# EAGLE library part FT8U245AM (library ftdi)
USB FIFO 1st Generation USB FIFO (USB <-> Parallel)
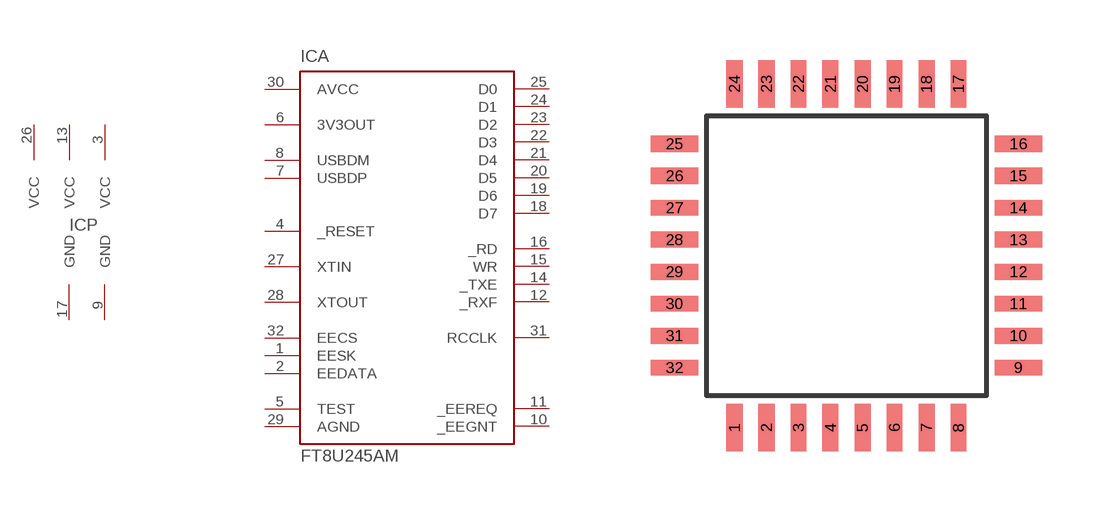
[diagram p3: symbol with the pads of LQFP32; footprint LQFP32]

Designator prefix IC; gates A=FT8U245AM P=3VCC2GND

## FT8U245AM  [LQFP32]
1  A:EESK
2  A:EEDATA
3  P:VCC  pwr
4  A:_RESET  in
5  A:TEST  in
6  A:3V3OUT  out
7  A:USBDP
8  A:USBDM
9  P:GND  pwr
10  A:_EEGNT  out
11  A:_EEREQ  in
12  A:_RXF  out
13  P:VCC  pwr
14  A:_TXE  out
15  A:WR  in
16  A:_RD  in
17  P:GND  pwr
18  A:D7
19  A:D6
20  A:D5
21  A:D4
22  A:D3
23  A:D2
24  A:D1
25  A:D0
26  P:VCC  pwr
27  A:XTIN  in
28  A:XTOUT  out
29  A:AGND  pwr
30  A:AVCC  pwr
31  A:RCCLK
32  A:EECS

## Footprint LQFP32 (pad centres in mm)
LQFP-32 package 7x7 mm case, 0.8 mm lead pitch
smd 0.4 x 1.2: 1 -2.8,-4.3; 2 -2,-4.3; 3 -1.2,-4.3; 4 -0.4,-4.3; 5 0.4,-4.3; 6 1.2,-4.3; 7 2,-4.3; 8 2.8,-4.3; 17 2.8,4.3; 18 2,4.3; 19 1.2,4.3; 20 0.4,4.3; 21 -0.4,4.3; 22 -1.2,4.3; 23 -2,4.3; 24 -2.8,4.3
smd 1.2 x 0.4: 9 4.3,-2.8; 10 4.3,-2; 11 4.3,-1.2; 12 4.3,-0.4; 13 4.3,0.4; 14 4.3,1.2; 15 4.3,2; 16 4.3,2.8; 25 -4.3,2.8; 26 -4.3,2; 27 -4.3,1.2; 28 -4.3,0.4; 29 -4.3,-0.4; 30 -4.3,-1.2; 31 -4.3,-2; 32 -4.3,-2.8